# EAGLE library part HLJ-6115ANL (library 1484203861886-plan44)
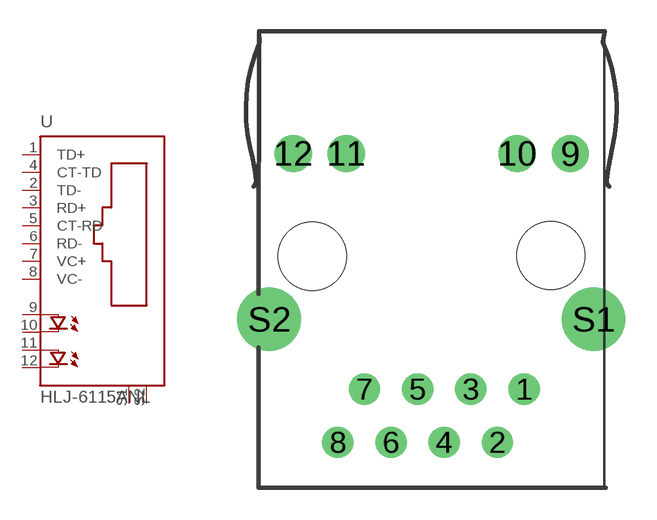
[diagram p4: symbol with the pads of HLJ-6115ANL; footprint HLJ-6115ANL]

Designator prefix -

## HLJ-6115ANL  [HLJ-6115ANL]
1  TD+  pas
2  TD-  pas
3  RD+  pas
4  CT-TD  pas
5  CT-RD  pas
6  RD-  pas
7  VC+  pas
8  VC-  pas
9  A1  pas
10  C1  pas
11  A2  pas
12  C2  pas
S1  S1  pas
S2  S2  pas

## Footprint HLJ-6115ANL (pad centres in mm)
Ethernet Connector (MagJack) for PoE Bel Stewart SI50177
drill 0.9 pad 1.5: 1 3.155,-5.882; 2 1.885,-8.422; 3 0.615,-5.882; 4 -0.655,-8.422; 5 -1.925,-5.882; 6 -3.195,-8.422; 7 -4.465,-5.882; 8 -5.735,-8.422
drill 1.016 pad 1.778: 9 5.371,5.372; 10 2.831,5.372; 11 -5.329,5.372; 12 -7.869,5.372
drill 1.6 pad 3.048: S1 6.477,-2.54; S2 -9.017,-2.54
hole 3.251 at 4.445,0.508
hole 3.251 at -6.955,0.468